# Altium schematic symbol library 4816P-1-223LF.SCHLIB: 1 symbol
Pins are listed as number, name and electrical type; pins without a type are passive.

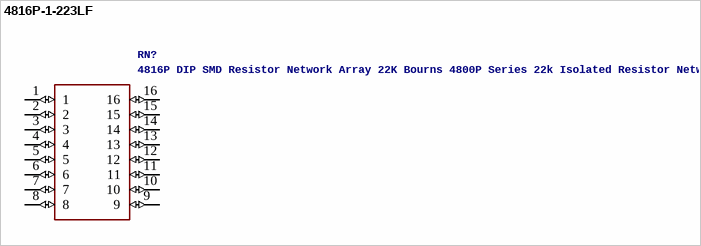
[diagram p0: symbol 4816P-1-223LF]

## 4816P-1-223LF
designator RN?, comment 4816P DIP SMD Resistor Network Array 22K Bourns 4800P Series 22k Isolated Resistor Network, 8 Resistors, 1.28W total DIP package Pin   Source:  Datasheet
GateName_1: G$1; SymbolName_1: 4816P-1-223LF; LibraryName: 4816P-1-223LF; DeviceSetName: 4816P-1-223LF; Mouser_Part_Number: 652-4816P-1LF-22K; Mouser_Price-Stock: https://www.mouser.co.uk/ProductDetail/Bourns/4816P-1-223LF?qs=yksRZAkH7guQI1U0uopZyw%3D%3D; Manufacturer_Name: Bourns; Manufacturer_Part_Number: 4816P-1-223LF; Description: 4816P DIP SMD Resistor Network Array 22K Bourns 4800P Series 22k Isolated Resistor Network, 8 Resistors, 1.28W total DIP package Pin; Height: 2.15mm
footprint SOIC127P762X215-16N
pins: 1 (io), 2 (io), 3 (io), 4 (io), 5 (io), 6 (io), 7 (io), 8 (io), 9 (io), 10 (io), 11 (io), 12 (io), 13 (io), 14 (io), 15 (io), 16 (io)